# EAGLE library part CY7C65215 (library Interface)
CY7C65215 edit this description Auto generated by make-symbol-device-package-bsdl.ulp Rev. 43 Source: CY7C65215.txt
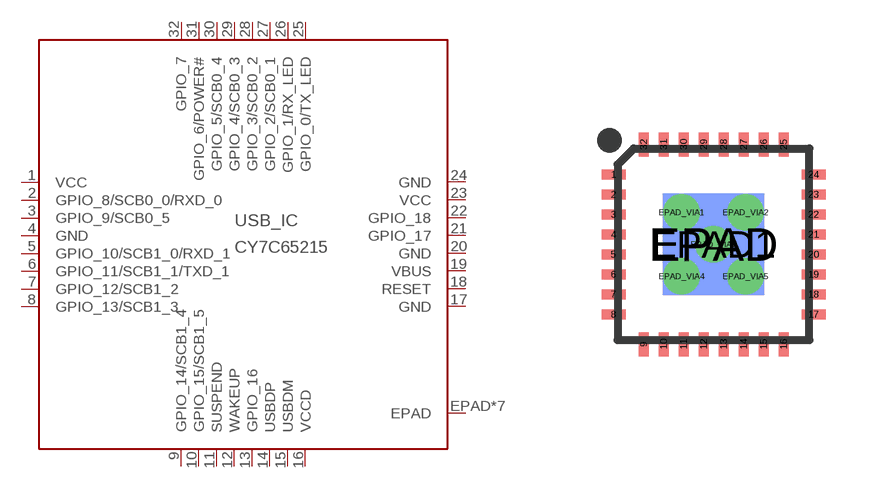
[diagram p4: symbol with the pads of QFN32; footprint QFN32]

Designator prefix USB_IC

## CY7C65215  [QFN32]
1  VCC  pwr
2  GPIO_8/SCB0_0/RXD_0
3  GPIO_9/SCB0_5
4  GND  pwr
5  GPIO_10/SCB1_0/RXD_1
6  GPIO_11/SCB1_1/TXD_1
7  GPIO_12/SCB1_2
8  GPIO_13/SCB1_3
9  GPIO_14/SCB1_4
10  GPIO_15/SCB1_5
11  SUSPEND  out
12  WAKEUP  in
13  GPIO_16
14  USBDP
15  USBDM
16  VCCD  pwr
17  GND  pwr
18  RESET
19  VBUS  pwr
20  GND  pwr
21  GPIO_17
22  GPIO_18
23  VCC  pwr
24  GND  pwr
25  GPIO_0/TX_LED
26  GPIO_1/RX_LED
27  GPIO_2/SCB0_1
28  GPIO_3/SCB0_2
29  GPIO_4/SCB0_3
30  GPIO_5/SCB0_4
31  GPIO_6/POWER#
32  GPIO_7
EPAD  EPAD
EPAD1  EPAD
EPAD_VIA1  EPAD
EPAD_VIA2  EPAD
EPAD_VIA3  EPAD
EPAD_VIA4  EPAD
EPAD_VIA5  EPAD

## Footprint QFN32 (pad centres in mm)
QFN32 Auto generated by make-symbol-device-package-bsdl.ulp Rev. 43
smd 0.6 x 0.25: 1 -2.5,1.75; 2 -2.5,1.25; 3 -2.5,0.75; 4 -2.5,0.25; 5 -2.5,-0.25; 6 -2.5,-0.75; 7 -2.5,-1.25; 8 -2.5,-1.75; 17 2.5,-1.75; 18 2.5,-1.25; 19 2.5,-0.75; 20 2.5,-0.25; 21 2.5,0.25; 22 2.5,0.75; 23 2.5,1.25; 24 2.5,1.75
smd 0.25 x 0.6: 9 -1.75,-2.5; 10 -1.25,-2.5; 11 -0.75,-2.5; 12 -0.25,-2.5; 13 0.25,-2.5; 14 0.75,-2.5; 15 1.25,-2.5; 16 1.75,-2.5; 25 1.75,2.5; 26 1.25,2.5; 27 0.75,2.5; 28 0.25,2.5; 29 -0.25,2.5; 30 -0.75,2.5; 31 -1.25,2.5; 32 -1.75,2.5
smd 2.54 x 2.54: EPAD 0,0
smd 2.54 x 2.54 bottom: EPAD1 0,0
drill 0.4 pad 0.813: EPAD_VIA1 -0.8,0.8; EPAD_VIA2 0.8,0.8; EPAD_VIA3 0,0; EPAD_VIA4 -0.8,-0.8; EPAD_VIA5 0.8,-0.8